# Altium schematic symbol library RES,5.1k,5%,0.25W,0603.Schlib: 1 symbol
Pins are listed as number, name and electrical type; pins without a type are passive.

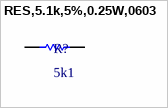
[diagram p0: symbol RES,5.1k,5%,0.25W,0603]

## RES,5.1k,5%,0.25W,0603
designator R?, comment 5k1
5.1 kOhms ±5% 0.25W, 1/4W Chip Resistor 0603 (1608 Metric) Anti-Sulfur, Automotive AEC-Q200, Pulse Withstanding Thick Film
pins: 1, 2